# Altium schematic symbol library BQ24072TRGTR.SchLib: 2 symbols
Pins are listed as number, name and electrical type; pins without a type are passive.

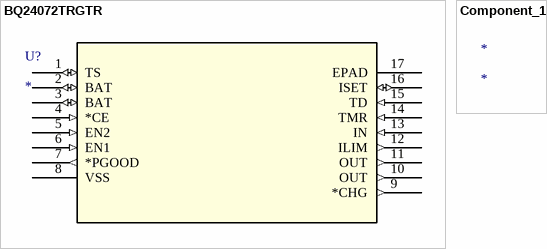
[diagram p0: symbols BQ24072TRGTR to Component_1]

## BQ24072TRGTR
designator U?
1.5A USB-Friendly Li-Ion Battery Charger and Power-Path Management IC; Manufacturer: Texas Instruments; GENERIC_PART_NUMBER: BQ24072T; INDUSTRY_STD_PKG_TYPE: QFN; FAMILY_NAME: BATTERY CHARGE MANAGEMENT; PIN_COUNT: 16; PACKAGE_DESIGNATOR: RGT; Datasheet_URL: http://www.ti.com/lit/gpn/BQ24072T; Copyright: Copyright (C) 2018 Accelerated Designs. All rights reserved; RefDes: RefDes; Type: DEV
footprint RGT16_1P7X1P7
pins: 1 TS (io), 2 BAT (io), 3 BAT (io), 4 *CE (in), 5 EN2 (in), 6 EN1 (in), 7 *PGOOD (out), 8 VSS (power), 9 *CHG (out), 10 OUT (out), 11 OUT (out), 12 ILIM (out), 13 IN (in), 14 TMR (in), 15 TD (in), 16 ISET (io), 17 EPAD (power)

## Component_1
designator *